# EAGLE library part BQ34110PW (library Deegou_IC)
Multi-Chemistry High-cell Count Battery Fuel Gauge w/Integrated Rarely Discharged Module Source: Datasheet <http://www.ti.com/lit/gpn/bq34110>
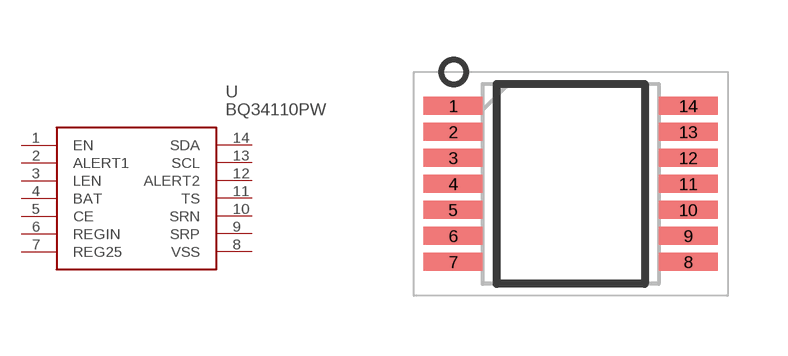
[diagram p34: symbol with the pads of SOP65P640X120-14N; footprint SOP65P640X120-14N]

Designator prefix U

## BQ34110PW (ARROW_PART_NUMBER: BQ34110PW; ARROW_PRICE/STOCK: https://www.arrow.com/en/products/bq34110pw/texas-instruments; DESCRIPTION: Multi-Chemistry High-cell Count Battery Fuel Gauge w/Integrated Rarely Discharged Module; HEIGHT: 1.2mm; MANUFACTURER_NAME: Texas Instruments; MANUFACTURER_PART_NUMBER: BQ34110PW)  [SOP65P640X120-14N]
1  EN
2  ALERT1
3  LEN
4  BAT
5  CE
6  REGIN
7  REG25
8  VSS
9  SRP
10  SRN
11  TS
12  ALERT2
13  SCL
14  SDA

## Footprint SOP65P640X120-14N (pad centres in mm)
PIC16F1825-I/ST
smd 1.475 x 0.45: 1 -2.938,1.95; 2 -2.938,1.3; 3 -2.938,0.65; 4 -2.938,0; 5 -2.938,-0.65; 6 -2.938,-1.3; 7 -2.938,-1.95; 8 2.938,-1.95; 9 2.938,-1.3; 10 2.938,-0.65; 11 2.938,0; 12 2.938,0.65; 13 2.938,1.3; 14 2.938,1.95